# Altium footprint library KN2CLib.PcbLib: 142 footprints (part 1 of 9)
Each footprint in its own frame and in the unit in brackets; x right, y up, seen from the top. Pads: shape width x height; smd on the part's side, far side on the other; paste and mask are expansions set on the pad; w line width, h text height; cw(c..) or ccw(c..) is an arc to the next point about the centre after c.
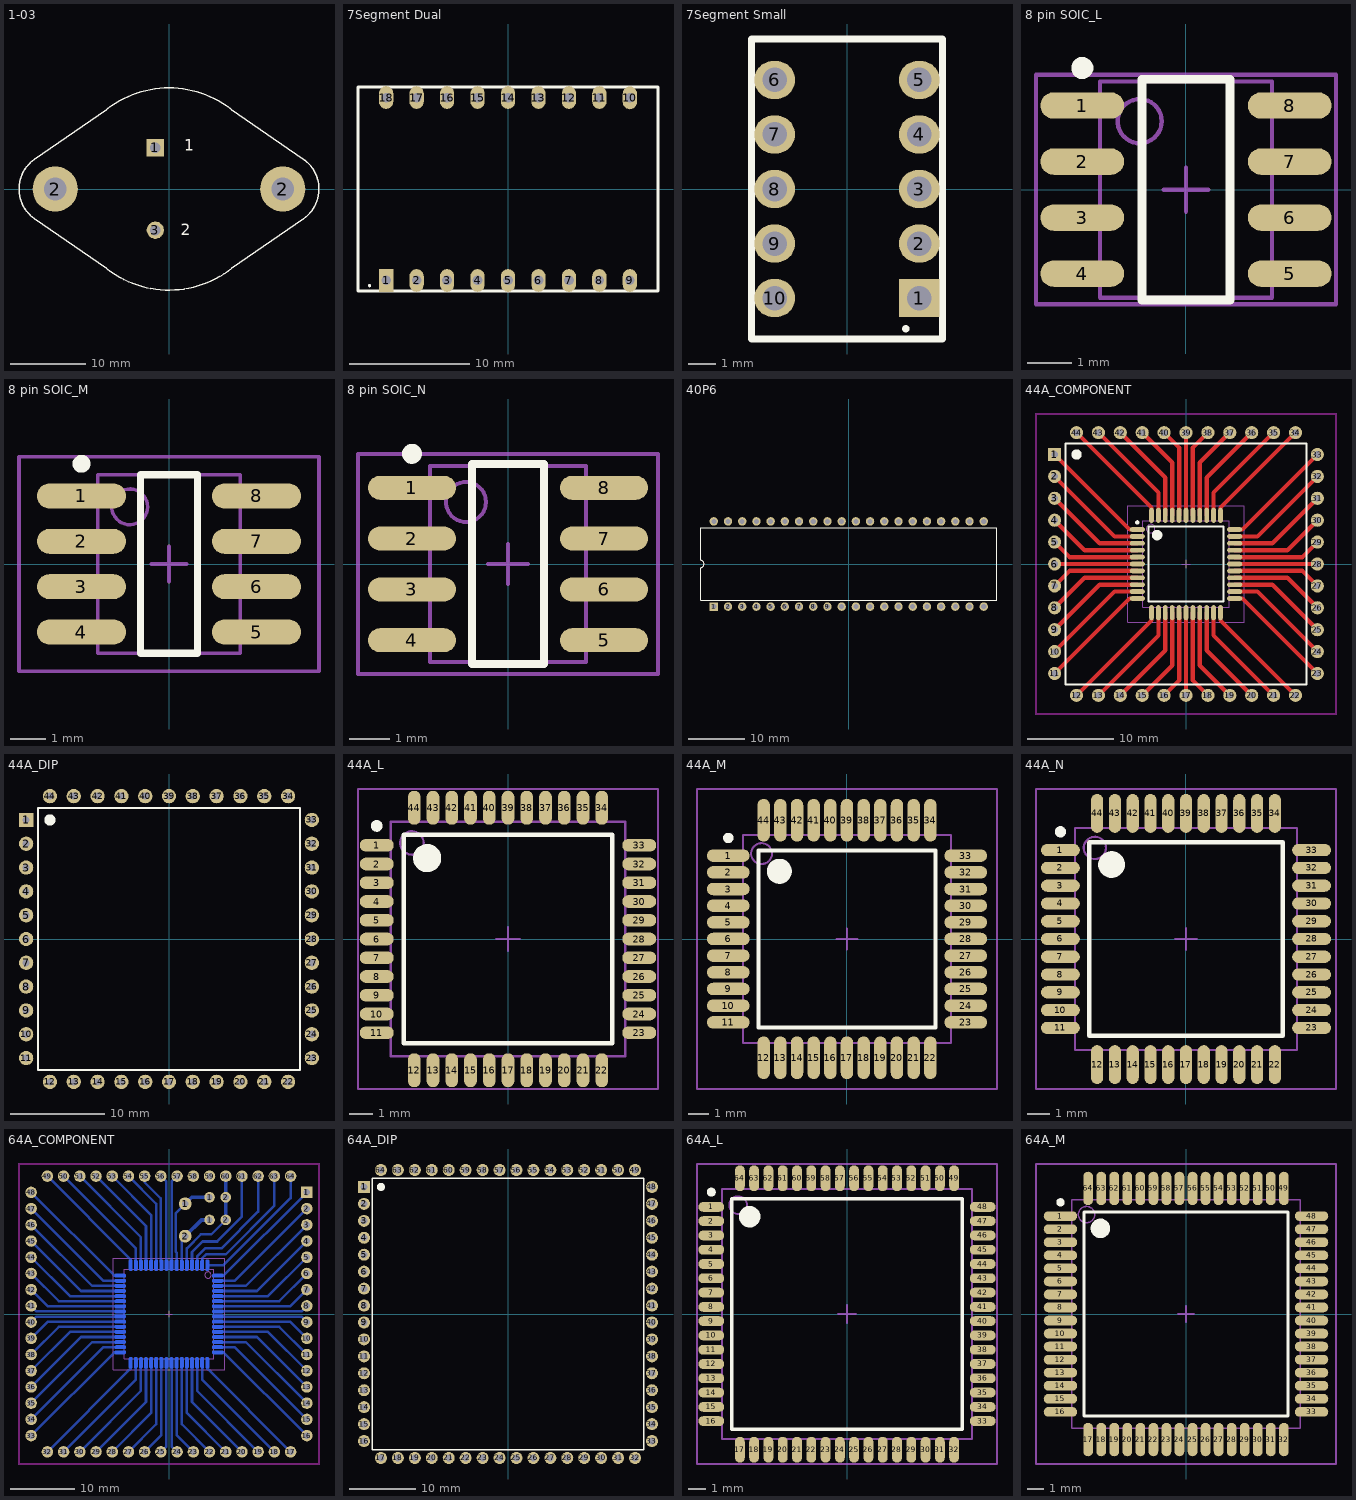
[diagram p0: the footprints below, top view; thin cyan lines are the x and y axes]

## 1-03 [mm] "Oval Flange Mount with (2) Offset Leads; Pin Spacing 10.92 mm; Lead Dia. 1.09 mm (max)"
height 11.43
pads (4):
  rect 2.3x2.3 hole 1.4: 1(-1.815,5.46)
  round 6 hole 3: 2(-15.075,0) 2(15.075,0)
  round 2.3 hole 1.4: 3(-1.815,-5.46)
Top Overlay:
  lines w0.2: -17.84,-3.93 -8.299,-10.521 ; -17.84,3.94 -8.299,10.521 ; -17.828,-3.932 cw(c-15.075,0) -17.828,3.932 ; -8.613,-10.265 ccw(c0,0) 8.298,-10.521 17.82,-3.94 ; -8.613,10.265 cw(c0,0) 8.613,10.265 ; 8.299,10.521 17.68,4.03 ; 17.689,4.026 cw(c15.075,0) 17.828,-3.932
  text "1" at 2.032,5.08 h1.5
  text "2" at 1.524,-6.096 h1.5
3D body: height 7.8, standoff 0, extent -19.875,-13.4 19.9,13.4

## 7Segment Dual [mm]
pads (18):
  rect 1.2x1.9 hole 0.8: 1(-10.16,-7.62)
  oval 1.2x1.9 hole 0.8: 2(-7.62,-7.62) 3(-5.08,-7.62) 4(-2.54,-7.62) 5(0,-7.62) 6(2.54,-7.62) 7(5.08,-7.62) 8(7.62,-7.62) 9(10.16,-7.62) 10(10.16,7.595) 11(7.62,7.62) 12(5.08,7.62) 13(2.54,7.62) 14(0,7.62) 15(-2.54,7.62) 16(-5.08,7.62) 17(-7.62,7.62) 18(-10.16,7.62)
Top Overlay:
  circle w0.254: c-11.541,-8.052 r0.009
  lines w0.254: -12.5,-8.5 -12.5,8.5 12.5,8.5 12.5,-8.5 -12.5,-8.5
3D body: height 4.8, standoff 0, extent -12.497,-8.509 12.497,8.484

## 7Segment Small [mm]
pads (10):
  rect 1.5x1.4 hole 0.9: 1(2.65,-4)
  oval 1.5x1.4 hole 0.9: 2(2.65,-2) 3(2.65,0) 4(2.65,2) 5(2.65,4) 6(-2.65,4) 7(-2.65,2) 8(-2.65,0) 9(-2.65,-2) 10(-2.65,-4)
Top Overlay:
  circle w0.254: c2.16,-5.123 r0.009
  lines w0.254: -3.5,-5.5 3.5,-5.5 3.5,5.5 -3.5,5.5 -3.5,-5.5
3D body: height 4.8, standoff 0, extent -3.537,-5.475 3.5,5.55

## 8 pin SOIC_L [mm] "8-Pin Small Outline Integrated Circuit 1.27 mm Pitch, IPC High Density"
height 1.91
pads (8):
  oval 1.9x0.6 smd: 1(-2.35,1.905) 2(-2.35,0.635) 3(-2.35,-0.635) 4(-2.35,-1.905) 5(2.35,-1.905) 6(2.35,-0.635) 7(2.35,0.635) 8(2.35,1.905)
Top Overlay:
  circle w0.25: c-2.35,2.755 r0.125
  lines w0.2: -1,-2.5 1,-2.5 1,2.5 -1,2.5 -1,-2.5
Mechanical 13:
  circle w0.1: c-1.05,1.55 r0.5
  lines w0.1: -1.95,-2.45 1.95,-2.45 1.95,2.45 -1.95,2.45 -1.95,-2.45
Mechanical 15:
  lines w0.1: -0.5,0 0.5,0 ; 0,-0.5 0,0.5 ; -3.4,-2.6 3.4,-2.6 3.4,2.6 -3.4,2.6 -3.4,-2.6
3D body: height 1.91, standoff 0, extent -1.95,-2.45 1.95,2.45

## 8 pin SOIC_M [mm] "8-Pin Small Outline Integrated Circuit 1.27 mm Pitch, IPC Low Density"
height 1.91
pads (8):
  oval 2.5x0.7 smd: 1(-2.45,1.905) 2(-2.45,0.635) 3(-2.45,-0.635) 4(-2.45,-1.905) 5(2.45,-1.905) 6(2.45,-0.635) 7(2.45,0.635) 8(2.45,1.905)
Top Overlay:
  circle w0.25: c-2.45,2.805 r0.125
  lines w0.2: -0.8,-2.5 -0.8,2.5 0.8,2.5 0.8,-2.5 -0.8,-2.5
Mechanical 13:
  circle w0.1: c-1.1,1.6 r0.5
  lines w0.1: -2,-2.5 -2,2.5 2,2.5 2,-2.5 -2,-2.5
Mechanical 15:
  lines w0.1: -0.5,0 0.5,0 ; 0,-0.5 0,0.5 ; -4.2,-3 -4.2,3 4.2,3 4.2,-3 -4.2,-3
3D body: height 1.91, standoff 0, extent -2,-2.5 2,2.5

## 8 pin SOIC_N [mm] "8-Pin Small Outline Integrated Circuit 1.27 mm Pitch, IPC Medium Density"
height 1.91
pads (8):
  oval 2.2x0.6 smd: 1(-2.4,1.905) 2(-2.4,0.635) 3(-2.4,-0.635) 4(-2.4,-1.905) 5(2.4,-1.905) 6(2.4,-0.635) 7(2.4,0.635) 8(2.4,1.905)
Top Overlay:
  circle w0.25: c-2.4,2.755 r0.125
  lines w0.2: -0.9,-2.5 -0.9,2.5 0.9,2.5 0.9,-2.5 -0.9,-2.5
Mechanical 13:
  circle w0.1: c-1.05,1.55 r0.5
  lines w0.1: -1.95,-2.45 -1.95,2.45 1.95,2.45 1.95,-2.45 -1.95,-2.45
Mechanical 15:
  lines w0.1: -0.5,0 0.5,0 ; 0,-0.5 0,0.5 ; -3.75,-2.75 -3.75,2.75 3.75,2.75 3.75,-2.75 -3.75,-2.75
3D body: height 1.91, standoff 0, extent -1.95,-2.45 1.95,2.45

## 40P6 [mm] "DIP; 40 Leads; Row Spacing 15.24 mm; Pitch 2.54 mm"
height 5.59
pads (40):
  rect 1.5x1.5 hole 0.9: 1(-24.13,-7.62)
  round 1.5 hole 0.9: 2(-21.59,-7.62) 3(-19.05,-7.62) 4(-16.51,-7.62) 5(-13.97,-7.62) 6(-11.43,-7.62) 7(-8.89,-7.62) 8(-6.35,-7.62) 9(-3.81,-7.62) 10(-1.27,-7.62) 11(1.27,-7.62) 12(3.81,-7.62) 13(6.35,-7.62) 14(8.89,-7.62) 15(11.43,-7.62) 16(13.97,-7.62) 17(16.51,-7.62) 18(19.05,-7.62) 19(21.59,-7.62) 20(24.13,-7.62) 21(24.13,7.62) 22(21.59,7.62) 23(19.05,7.62) 24(16.51,7.62) 25(13.97,7.62) 26(11.43,7.62) 27(8.89,7.62) 28(6.35,7.62) 29(3.81,7.62) 30(1.27,7.62) 31(-1.27,7.62) 32(-3.81,7.62) 33(-6.35,7.62) 34(-8.89,7.62) 35(-11.43,7.62) 36(-13.97,7.62) 37(-16.51,7.62) 38(-19.05,7.62) 39(-21.59,7.62) 40(-24.13,7.62)
Top Overlay:
  lines w0.2: -26.5,-6.45 26.5,-6.45 26.5,6.45 -26.5,6.45 -26.5,0.635 cw(c-26.5,0) -26.5,-0.635 -26.5,-6.45
3D body: height 7.6, standoff 0, extent -26.5,-6.475 26.5,6.45

## 44A_COMPONENT [mil]
pads (88):
  rect 60x60 hole 30: 1(-600,500)
  oval 68.9x21.65 smd: 1(-222.44,157.48) 2(-222.44,125.98) 3(-222.44,94.49) 4(-222.44,62.99) 5(-222.44,31.5) 6(-222.44,0) 7(-222.44,-31.5) 8(-222.44,-62.99) 9(-222.44,-94.49) 10(-222.44,-125.98) 11(-222.44,-157.48) 23(222.44,-157.48) 24(222.44,-125.98) 25(222.44,-94.49) 26(222.44,-62.99) 27(222.44,-31.5) 28(222.44,0) 29(222.44,31.5) 30(222.44,62.99) 31(222.44,94.49) 32(222.44,125.98) 33(222.44,157.48)
  round 60 hole 30: 2(-600,400) 3(-600,300) 4(-600,200) 5(-600,100) 6(-600,0) 7(-600,-100) 8(-600,-200) 9(-600,-300) 10(-600,-400) 11(-600,-500) 12(-500,-600) 13(-400,-600) 14(-300,-600) 15(-200,-600) 16(-100,-600) 17(0,-600) 18(100,-600) 19(200,-600) 20(300,-600) 21(400,-600) 22(500,-600) 23(600,-500) 24(600,-400) 25(600,-300) 26(600,-200) 27(600,-100) 28(600,0) 29(600,100) 30(600,200) 31(600,300) 32(600,400) 33(600,500) 34(500,600) 35(400,600) 36(300,600) 37(200,600) 38(100,600) 39(0,600) 40(-100,600) 41(-200,600) 42(-300,600) 43(-400,600) 44(-500,600)
  oval 21.65x68.9 smd: 12(-157.48,-222.44) 13(-125.98,-222.44) 14(-94.49,-222.44) 15(-62.99,-222.44) 16(-31.5,-222.44) 17(0,-222.44) 18(31.5,-222.44) 19(62.99,-222.44) 20(94.49,-222.44) 21(125.98,-222.44) 22(157.48,-222.44) 34(157.48,222.44) 35(125.98,222.44) 36(94.49,222.44) 37(62.99,222.44) 38(31.5,222.44) 39(0,222.44) 40(-31.5,222.44) 41(-62.99,222.44) 42(-94.49,222.44) 43(-125.98,222.44) 44(-157.48,222.44)
Top Layer:
  lines w19.68: -600,-500 -257.48,-157.48 -222.44,-157.48 ; -600,-400 -325.98,-125.98 -222.44,-125.98 ; -600,-300 -394.49,-94.49 -222.44,-94.49 ; -600,-200 -462.99,-62.99 -222.44,-62.99 ; -600,-100 -531.5,-31.5 -222.44,-31.5 ; -600,0 -222.44,0 ; -600,100 -531.5,31.5 -222.44,31.5 ; -600,200 -462.99,62.99 -222.44,62.99 ; -600,300 -394.49,94.49 -222.44,94.49 ; -600,400 -325.98,125.98 -222.44,125.98 ; -600,500 -257.48,157.48 -222.44,157.48 ; -500,-600 -157.48,-257.48 -157.48,-222.44 ; -500,600 -157.48,257.48 -157.48,222.44 ; -400,-600 -125.98,-325.98 -125.98,-222.44 ; -400,600 -125.98,325.98 -125.98,222.44 ; -300,-600 -94.49,-394.49 -94.49,-222.44 ; -300,600 -94.49,394.49 -94.49,222.44 ; -200,-600 -62.99,-462.99 -62.99,-222.44 ; -200,600 -62.99,462.99 -62.99,222.44 ; -100,-600 -31.5,-531.5 -31.5,-222.44 ; -100,600 -31.5,531.5 -31.5,222.44 ; 0,-600 0,-222.44 ; 0,222.44 0,600 ; 31.5,-222.44 31.5,-531.5 100,-600 ; 31.5,222.44 31.5,531.5 100,600 ; 62.99,-222.44 62.99,-462.99 200,-600 ; 62.99,222.44 62.99,462.99 200,600 ; 94.49,-222.44 94.49,-394.49 300,-600 ; 94.49,222.44 94.49,394.49 300,600 ; 125.98,-222.44 125.98,-325.98 400,-600 ; 125.98,222.44 125.98,325.98 400,600 ; 157.48,-222.44 157.48,-257.48 500,-600 ; 157.48,222.44 157.48,257.48 500,600 ; 222.44,-157.48 257.48,-157.48 600,-500 ; 222.44,-125.98 325.98,-125.98 600,-400 ; 222.44,-94.49 394.49,-94.49 600,-300 ; 222.44,-62.99 462.99,-62.99 600,-200 ; 222.44,-31.5 531.5,-31.5 600,-100 ; 222.44,0 600,0 ; 222.44,31.5 531.5,31.5 600,100 ; 222.44,62.99 462.99,62.99 600,200 ; 222.44,94.49 394.49,94.49 600,300 ; 222.44,125.98 325.98,125.98 600,400 ; 222.44,157.48 257.48,157.48 600,500
Top Overlay:
  circle w9.84: c-222.44,189.96 r4.92
  circle w23.62: c-131.89,131.89 r11.81
  circle w23.62: c-500,500 r11.81
  lines w7.87: -550,-550 550,-550 550,550 -550,550 -550,-550 ; -171.26,-171.26 -171.26,171.26 171.26,171.26 171.26,-171.26 -171.26,-171.26
Keep-Out Layer:
  lines w10: -685,-685 -685,685 685,685 685,-685 -685,-685
Mechanical 13:
  circle w3.94: c-161.42,161.42 r19.68
  lines w3.94: -196.85,-196.85 -196.85,196.85 196.85,196.85 196.85,-196.85 -196.85,-196.85
Mechanical 15:
  lines w3.94: -19.68,0 19.69,0 ; 0,-19.68 0,19.69 ; -265.75,-265.75 -265.75,265.75 265.75,265.75 265.75,-265.75 -265.75,-265.75
3D body: height 47.24, standoff 0, extent -196.85,-196.85 196.85,196.85

## 44A_DIP [mil]
pads (44):
  rect 60x60 hole 30: 1(-600,500)
  round 60 hole 30: 2(-600,400) 3(-600,300) 4(-600,200) 5(-600,100) 6(-600,0) 7(-600,-100) 8(-600,-200) 9(-600,-300) 10(-600,-400) 11(-600,-500) 12(-500,-600) 13(-400,-600) 14(-300,-600) 15(-200,-600) 16(-100,-600) 17(0,-600) 18(100,-600) 19(200,-600) 20(300,-600) 21(400,-600) 22(500,-600) 23(600,-500) 24(600,-400) 25(600,-300) 26(600,-200) 27(600,-100) 28(600,0) 29(600,100) 30(600,200) 31(600,300) 32(600,400) 33(600,500) 34(500,600) 35(400,600) 36(300,600) 37(200,600) 38(100,600) 39(0,600) 40(-100,600) 41(-200,600) 42(-300,600) 43(-400,600) 44(-500,600)
Top Overlay:
  circle w23.62: c-500,500 r11.81
  lines w7.87: -550,-550 550,-550 550,550 -550,550 -550,-550

## 44A_L [mm] "Thin QFP, 44-Leads, Body 10x10mm, Pitch 0.8mm, IPC High Density"
height 1.2
pads (44):
  oval 1.45x0.55 smd: 1(-5.6,4) 2(-5.6,3.2) 3(-5.6,2.4) 4(-5.6,1.6) 5(-5.6,0.8) 6(-5.6,0) 7(-5.6,-0.8) 8(-5.6,-1.6) 9(-5.6,-2.4) 10(-5.6,-3.2) 11(-5.6,-4) 23(5.6,-4) 24(5.6,-3.2) 25(5.6,-2.4) 26(5.6,-1.6) 27(5.6,-0.8) 28(5.6,0) 29(5.6,0.8) 30(5.6,1.6) 31(5.6,2.4) 32(5.6,3.2) 33(5.6,4)
  oval 0.55x1.45 smd: 12(-4,-5.6) 13(-3.2,-5.6) 14(-2.4,-5.6) 15(-1.6,-5.6) 16(-0.8,-5.6) 17(0,-5.6) 18(0.8,-5.6) 19(1.6,-5.6) 20(2.4,-5.6) 21(3.2,-5.6) 22(4,-5.6) 34(4,5.6) 35(3.2,5.6) 36(2.4,5.6) 37(1.6,5.6) 38(0.8,5.6) 39(0,5.6) 40(-0.8,5.6) 41(-1.6,5.6) 42(-2.4,5.6) 43(-3.2,5.6) 44(-4,5.6)
Top Overlay:
  circle w0.25: c-5.6,4.825 r0.125
  circle w0.6: c-3.45,3.45 r0.3
  lines w0.2: -4.45,-4.45 4.45,-4.45 4.45,4.45 -4.45,4.45 -4.45,-4.45
Mechanical 13:
  circle w0.1: c-4.1,4.1 r0.5
  lines w0.1: -5,-5 -5,5 5,5 5,-5 -5,-5
Mechanical 15:
  lines w0.1: -0.5,0 0.5,0 ; 0,-0.5 0,0.5 ; -6.4,-6.4 -6.4,6.4 6.4,6.4 6.4,-6.4 -6.4,-6.4
3D body: height 1.2, standoff 0, extent -5,-5 5,5

## 44A_M [mm] "44-Pin Thin Quad Flat Pack 0.8 mm Pitch, IPC Low Density"
height 1.2
pads (44):
  oval 2.05x0.6 smd: 1(-5.7,4) 2(-5.7,3.2) 3(-5.7,2.4) 4(-5.7,1.6) 5(-5.7,0.8) 6(-5.7,0) 7(-5.7,-0.8) 8(-5.7,-1.6) 9(-5.7,-2.4) 10(-5.7,-3.2) 11(-5.7,-4) 23(5.7,-4) 24(5.7,-3.2) 25(5.7,-2.4) 26(5.7,-1.6) 27(5.7,-0.8) 28(5.7,0) 29(5.7,0.8) 30(5.7,1.6) 31(5.7,2.4) 32(5.7,3.2) 33(5.7,4)
  oval 0.6x2.05 smd: 12(-4,-5.7) 13(-3.2,-5.7) 14(-2.4,-5.7) 15(-1.6,-5.7) 16(-0.8,-5.7) 17(0,-5.7) 18(0.8,-5.7) 19(1.6,-5.7) 20(2.4,-5.7) 21(3.2,-5.7) 22(4,-5.7) 34(4,5.7) 35(3.2,5.7) 36(2.4,5.7) 37(1.6,5.7) 38(0.8,5.7) 39(0,5.7) 40(-0.8,5.7) 41(-1.6,5.7) 42(-2.4,5.7) 43(-3.2,5.7) 44(-4,5.7)
Top Overlay:
  circle w0.6: c-3.25,3.25 r0.3
  circle w0.25: c-5.7,4.85 r0.125
  lines w0.2: -4.25,-4.25 4.25,-4.25 4.25,4.25 -4.25,4.25 -4.25,-4.25
Mechanical 13:
  circle w0.1: c-4.1,4.1 r0.5
  lines w0.1: -5,-5 5,-5 5,5 -5,5 -5,-5
Mechanical 15:
  lines w0.1: -0.5,0 0.5,0 ; 0,-0.5 0,0.5 ; -7.2,-7.2 7.2,-7.2 7.2,7.2 -7.2,7.2 -7.2,-7.2
3D body: height 1.2, standoff 0, extent -5,-5 5,5

## 44A_N [mm] "Thin QFP, 44-Leads, Body 10x10mm, Pitch 0.8mm, IPC Medium Density"
height 1.2
pads (44):
  oval 1.75x0.55 smd: 1(-5.65,4) 2(-5.65,3.2) 3(-5.65,2.4) 4(-5.65,1.6) 5(-5.65,0.8) 6(-5.65,0) 7(-5.65,-0.8) 8(-5.65,-1.6) 9(-5.65,-2.4) 10(-5.65,-3.2) 11(-5.65,-4) 23(5.65,-4) 24(5.65,-3.2) 25(5.65,-2.4) 26(5.65,-1.6) 27(5.65,-0.8) 28(5.65,0) 29(5.65,0.8) 30(5.65,1.6) 31(5.65,2.4) 32(5.65,3.2) 33(5.65,4)
  oval 0.55x1.75 smd: 12(-4,-5.65) 13(-3.2,-5.65) 14(-2.4,-5.65) 15(-1.6,-5.65) 16(-0.8,-5.65) 17(0,-5.65) 18(0.8,-5.65) 19(1.6,-5.65) 20(2.4,-5.65) 21(3.2,-5.65) 22(4,-5.65) 34(4,5.65) 35(3.2,5.65) 36(2.4,5.65) 37(1.6,5.65) 38(0.8,5.65) 39(0,5.65) 40(-0.8,5.65) 41(-1.6,5.65) 42(-2.4,5.65) 43(-3.2,5.65) 44(-4,5.65)
Top Overlay:
  circle w0.25: c-5.65,4.825 r0.125
  circle w0.6: c-3.35,3.35 r0.3
  lines w0.2: -4.35,-4.35 -4.35,4.35 4.35,4.35 4.35,-4.35 -4.35,-4.35
Mechanical 13:
  circle w0.1: c-4.1,4.1 r0.5
  lines w0.1: -5,-5 -5,5 5,5 5,-5 -5,-5
Mechanical 15:
  lines w0.1: -0.5,0 0.5,0 ; 0,-0.5 0,0.5 ; -6.75,-6.75 -6.75,6.75 6.75,6.75 6.75,-6.75 -6.75,-6.75
3D body: height 1.2, standoff 0, extent -5,-5 5,5

## 64A_COMPONENT [mm]
pads (134):
  round 2 hole 1: 1(2.54,17.272) 2(2.54,12.192)
  round 1.65 hole 1: 1(6.35,14.732) 1(6.35,18.288) 2(8.89,14.732) 2(8.89,18.288)
  oval 1.75x0.55 smd far side: 1(7.65,6) 2(7.65,5.2) 3(7.65,4.4) 4(7.65,3.6) 5(7.65,2.8) 6(7.65,2) 7(7.65,1.2) 8(7.65,0.4) 9(7.65,-0.4) 10(7.65,-1.2) 11(7.65,-2) 12(7.65,-2.8) 13(7.65,-3.6) 14(7.65,-4.4) 15(7.65,-5.2) 16(7.65,-6) 33(-7.65,-6) 34(-7.65,-5.2) 35(-7.65,-4.4) 36(-7.65,-3.6) 37(-7.65,-2.8) 38(-7.65,-2) 39(-7.65,-1.2) 40(-7.65,-0.4) 41(-7.65,0.4) 42(-7.65,1.2) 43(-7.65,2) 44(-7.65,2.8) 45(-7.65,3.6) 46(-7.65,4.4) 47(-7.65,5.2) 48(-7.65,6)
  rect 1.8x1.8 hole 1: 1(21.59,19.05)
  round 1.8 hole 1: 2(21.59,16.51) 3(21.59,13.97) 4(21.59,11.43) 5(21.59,8.89) 6(21.59,6.35) 7(21.59,3.81) 8(21.59,1.27) 9(21.59,-1.27) 10(21.59,-3.81) 11(21.59,-6.35) 12(21.59,-8.89) 13(21.59,-11.43) 14(21.59,-13.97) 15(21.59,-16.51) 16(21.59,-19.05) 17(19.05,-21.59) 18(16.51,-21.59) 19(13.97,-21.59) 20(11.43,-21.59) 21(8.89,-21.59) 22(6.35,-21.59) 23(3.81,-21.59) 24(1.27,-21.59) 25(-1.27,-21.59) 26(-3.81,-21.59) 27(-6.35,-21.59) 28(-8.89,-21.59) 29(-11.43,-21.59) 30(-13.97,-21.59) 31(-16.51,-21.59) 32(-19.05,-21.59) 33(-21.59,-19.05) 34(-21.59,-16.51) 35(-21.59,-13.97) 36(-21.59,-11.43) 37(-21.59,-8.89) 38(-21.59,-6.35) 39(-21.59,-3.81) 40(-21.59,-1.27) 41(-21.59,1.27) 42(-21.59,3.81) 43(-21.59,6.35) 44(-21.59,8.89) 45(-21.59,11.43) 46(-21.59,13.97) 47(-21.59,16.51) 48(-21.59,19.05) 49(-19.05,21.59) 50(-16.51,21.59) 51(-13.97,21.59) 52(-11.43,21.59) 53(-8.89,21.59) 54(-6.35,21.59) 55(-3.81,21.59) 56(-1.27,21.59) 57(1.27,21.59) 58(3.81,21.59) 59(6.35,21.59) 60(8.89,21.59) 61(11.43,21.59) 62(13.97,21.59) 63(16.51,21.59) 64(19.05,21.59)
  oval 0.55x1.75 smd far side: 17(6,-7.65) 18(5.2,-7.65) 19(4.4,-7.65) 20(3.6,-7.65) 21(2.8,-7.65) 22(2,-7.65) 23(1.2,-7.65) 24(0.4,-7.65) 25(-0.4,-7.65) 26(-1.2,-7.65) 27(-2,-7.65) 28(-2.8,-7.65) 29(-3.6,-7.65) 30(-4.4,-7.65) 31(-5.2,-7.65) 32(-6,-7.65) 49(-6,7.65) 50(-5.2,7.65) 51(-4.4,7.65) 52(-3.6,7.65) 53(-2.8,7.65) 54(-2,7.65) 55(-1.2,7.65) 56(-0.4,7.65) 57(0.4,7.65) 58(1.2,7.65) 59(2,7.65) 60(2.8,7.65) 61(3.6,7.65) 62(4.4,7.65) 63(5.2,7.65) 64(6,7.65)
Bottom Layer:
  lines w0.4: -21.59,-19.05 -8.54,-6 -7.65,-6 ; -21.59,-16.51 -10.28,-5.2 -7.65,-5.2 ; -21.59,-13.97 -12.02,-4.4 -7.65,-4.4 ; -21.59,-11.43 -13.76,-3.6 -7.65,-3.6 ; -21.59,-8.89 -15.5,-2.8 -7.65,-2.8 ; -21.59,-6.35 -17.24,-2 -7.65,-2 ; -21.59,-3.81 -18.98,-1.2 -7.65,-1.2 ; -21.59,-1.27 -20.72,-0.4 -7.65,-0.4 ; -21.59,1.27 -20.72,0.4 -7.65,0.4 ; -21.59,3.81 -18.98,1.2 -7.65,1.2 ; -21.59,6.35 -17.24,2 -7.65,2 ; -21.59,8.89 -15.5,2.8 -7.65,2.8 ; -21.59,11.43 -13.76,3.6 -7.65,3.6 ; -21.59,13.97 -12.02,4.4 -7.65,4.4 ; -21.59,16.51 -10.28,5.2 -7.65,5.2 ; -21.59,19.05 -8.54,6 -7.65,6 ; -19.05,-21.59 -6,-8.54 -6,-7.65 ; -19.05,21.59 -6,8.54 -6,7.65 ; -16.51,-21.59 -5.2,-10.28 -5.2,-7.65 ; -16.51,21.59 -5.2,10.28 -5.2,7.65 ; -13.97,-21.59 -4.4,-12.02 -4.4,-7.65 ; -13.97,21.59 -4.4,12.02 -4.4,7.65 ; -11.43,-21.59 -3.6,-13.76 -3.6,-7.65 ; -11.43,21.59 -3.6,13.76 -3.6,7.65 ; -8.89,-21.59 -2.8,-15.5 -2.8,-7.65 ; -8.89,21.59 -2.8,15.5 -2.8,7.65 ; -6.35,-21.59 -2,-17.24 -2,-7.65 ; -6.35,21.59 -2,17.24 -2,7.65 ; -3.81,-21.59 -1.2,-18.98 -1.2,-7.65 ; -3.81,21.59 -3.81,20.634 -1.29,18.114 -1.29,8.504 -1.2,7.65 ; -1.27,-21.59 -0.4,-20.72 -0.4,-7.65 ; -1.27,21.59 -0.4,20.72 -0.4,7.65 ; 0.4,-7.65 0.4,-20.72 1.27,-21.59 ; 0.4,7.65 0.4,20.72 1.27,21.59 ; 1.2,-7.65 1.2,-18.98 3.81,-21.59 ; 1.2,7.65 1.2,9.62 1.067,9.754 1.067,15.799 2.54,17.272 ; 2,-7.65 2,-17.24 6.35,-21.59 ; 2,7.65 2,11.652 2.54,12.192 ; 2.8,-7.65 2.8,-15.5 8.89,-21.59 ; 2.8,7.65 2.8,10.293 4.998,12.491 6.649,12.491 8.89,14.732 ; 3.6,-7.65 3.6,-13.76 11.43,-21.59 ; 3.6,7.65 3.6,9.696 5.258,11.354 7.544,11.354 11.43,15.24 11.43,21.59 ; 4.4,-7.65 4.4,-12.02 13.97,-21.59 ; 4.4,7.65 4.4,9.023 5.703,10.326 8.267,10.326 13.97,16.029 13.97,21.59 ; 5.2,-7.65 5.2,-10.28 16.51,-21.59 ; 5.2,7.65 5.2,8.731 5.817,9.347 8.889,9.347 16.51,16.969 16.51,21.59 ; 6,-7.65 6,-8.54 19.05,-21.59 ; 6,7.65 8.534,7.65 19.05,18.166 19.05,21.59 ; 7.65,-6 8.54,-6 21.59,-19.05 ; 7.65,-5.2 10.28,-5.2 21.59,-16.51 ; 7.65,-4.4 12.02,-4.4 21.59,-13.97 ; 7.65,-3.6 13.76,-3.6 21.59,-11.43 ; 7.65,-2.8 15.5,-2.8 21.59,-8.89 ; 7.65,-2 17.24,-2 21.59,-6.35 ; 7.65,-1.2 18.98,-1.2 21.59,-3.81 ; 7.65,-0.4 20.72,-0.4 21.59,-1.27 ; 7.65,0.4 20.72,0.4 21.59,1.27 ; 7.65,1.2 18.98,1.2 21.59,3.81 ; 7.65,2 17.24,2 21.59,6.35 ; 7.65,2.8 15.5,2.8 21.59,8.89 ; 7.65,3.6 13.76,3.6 21.59,11.43 ; 7.65,4.4 12.02,4.4 21.59,13.97 ; 7.65,5.2 10.28,5.2 21.59,16.51 ; 7.65,6 8.54,6 21.59,19.05
  lines w0.6: 2.54,12.192 5.08,14.732 6.35,14.732 ; 2.54,17.272 3.556,18.288 6.35,18.288 ; 8.89,14.732 8.89,18.288 8.89,21.59
  text "AVR XMEGA" at -9.982,8.915 h1.5
  text "KN2C" at -14.275,-15.316 h1.5
  text "Designed By:" at -8.941,-9.322 h0.8
  text "1" at 22.606,20.853 h1
  text "17" at 21.742,-23.012 h1
  text "33" at -23.114,-21.641 h1
  text "49" at -21.869,23.038 h1
  text "64" at 20.345,22.962 h1
Bottom Overlay:
  circle w0.6: c5.35,5.35 r0.3
  circle w0.25: c7.65,6.825 r0.125
  circle w0.6: c19.05,19.05 r0.3
  lines w0.2: -20.32,-20.32 -20.32,20.32 20.32,20.32 20.32,-20.32 -20.32,-20.32 ; -6.35,-6.35 6.35,-6.35 6.35,6.35 -6.35,6.35 -6.35,-6.35 ; 5.07,13.132 10.17,13.132 10.17,16.332 5.07,16.332 5.07,13.132 ; 5.07,16.688 10.17,16.688 10.17,19.888 5.07,19.888 5.07,16.688
  lines w0.305: 1.016,9.652 4.064,9.652 4.064,19.812 1.016,19.812 1.016,9.652
Keep-Out Layer:
  lines w0.254: -23.495,-23.495 23.495,-23.495 23.495,23.495 -23.495,23.495 -23.495,-23.495
Mechanical 13:
  circle w0.1: c6.1,6.1 r0.5
  lines w0.1: -7,-7 7,-7 7,7 -7,7 -7,-7
Mechanical 15:
  lines w0.1: -0.5,0 0.5,0 ; 0,-0.5 0,0.5 ; -8.75,-8.75 8.75,-8.75 8.75,8.75 -8.75,8.75 -8.75,-8.75
3D body: height 1.2, standoff 0, extent -7,-7 7,7

## 64A_DIP [mm] "DIP, 64-Leads, Body 14x14mm,"
pads (64):
  rect 1.8x1.8 hole 1: 1(-21.59,19.05)
  round 1.8 hole 1: 2(-21.59,16.51) 3(-21.59,13.97) 4(-21.59,11.43) 5(-21.59,8.89) 6(-21.59,6.35) 7(-21.59,3.81) 8(-21.59,1.27) 9(-21.59,-1.27) 10(-21.59,-3.81) 11(-21.59,-6.35) 12(-21.59,-8.89) 13(-21.59,-11.43) 14(-21.59,-13.97) 15(-21.59,-16.51) 16(-21.59,-19.05) 17(-19.05,-21.59) 18(-16.51,-21.59) 19(-13.97,-21.59) 20(-11.43,-21.59) 21(-8.89,-21.59) 22(-6.35,-21.59) 23(-3.81,-21.59) 24(-1.27,-21.59) 25(1.27,-21.59) 26(3.81,-21.59) 27(6.35,-21.59) 28(8.89,-21.59) 29(11.43,-21.59) 30(13.97,-21.59) 31(16.51,-21.59) 32(19.05,-21.59) 33(21.59,-19.05) 34(21.59,-16.51) 35(21.59,-13.97) 36(21.59,-11.43) 37(21.59,-8.89) 38(21.59,-6.35) 39(21.59,-3.81) 40(21.59,-1.27) 41(21.59,1.27) 42(21.59,3.81) 43(21.59,6.35) 44(21.59,8.89) 45(21.59,11.43) 46(21.59,13.97) 47(21.59,16.51) 48(21.59,19.05) 49(19.05,21.59) 50(16.51,21.59) 51(13.97,21.59) 52(11.43,21.59) 53(8.89,21.59) 54(6.35,21.59) 55(3.81,21.59) 56(1.27,21.59) 57(-1.27,21.59) 58(-3.81,21.59) 59(-6.35,21.59) 60(-8.89,21.59) 61(-11.43,21.59) 62(-13.97,21.59) 63(-16.51,21.59) 64(-19.05,21.59)
Top Overlay:
  circle w0.6: c-19.05,19.05 r0.3
  lines w0.2: -20.32,-20.32 20.32,-20.32 20.32,20.32 -20.32,20.32 -20.32,-20.32

## 64A_L [mm] "Thin QFP, 64-Leads, Body 14x14mm, Pitch 0.8mm, IPC High Density"
height 1.2
pads (64):
  oval 1.45x0.55 smd: 1(-7.6,6) 2(-7.6,5.2) 3(-7.6,4.4) 4(-7.6,3.6) 5(-7.6,2.8) 6(-7.6,2) 7(-7.6,1.2) 8(-7.6,0.4) 9(-7.6,-0.4) 10(-7.6,-1.2) 11(-7.6,-2) 12(-7.6,-2.8) 13(-7.6,-3.6) 14(-7.6,-4.4) 15(-7.6,-5.2) 16(-7.6,-6) 33(7.6,-6) 34(7.6,-5.2) 35(7.6,-4.4) 36(7.6,-3.6) 37(7.6,-2.8) 38(7.6,-2) 39(7.6,-1.2) 40(7.6,-0.4) 41(7.6,0.4) 42(7.6,1.2) 43(7.6,2) 44(7.6,2.8) 45(7.6,3.6) 46(7.6,4.4) 47(7.6,5.2) 48(7.6,6)
  oval 0.55x1.45 smd: 17(-6,-7.6) 18(-5.2,-7.6) 19(-4.4,-7.6) 20(-3.6,-7.6) 21(-2.8,-7.6) 22(-2,-7.6) 23(-1.2,-7.6) 24(-0.4,-7.6) 25(0.4,-7.6) 26(1.2,-7.6) 27(2,-7.6) 28(2.8,-7.6) 29(3.6,-7.6) 30(4.4,-7.6) 31(5.2,-7.6) 32(6,-7.6) 49(6,7.6) 50(5.2,7.6) 51(4.4,7.6) 52(3.6,7.6) 53(2.8,7.6) 54(2,7.6) 55(1.2,7.6) 56(0.4,7.6) 57(-0.4,7.6) 58(-1.2,7.6) 59(-2,7.6) 60(-2.8,7.6) 61(-3.6,7.6) 62(-4.4,7.6) 63(-5.2,7.6) 64(-6,7.6)
Top Overlay:
  circle w0.6: c-5.45,5.45 r0.3
  circle w0.25: c-7.6,6.825 r0.125
  lines w0.2: -6.45,-6.45 6.45,-6.45 6.45,6.45 -6.45,6.45 -6.45,-6.45
Mechanical 13:
  circle w0.1: c-6.1,6.1 r0.5
  lines w0.1: -7,-7 7,-7 7,7 -7,7 -7,-7
Mechanical 15:
  lines w0.1: -0.5,0 0.5,0 ; 0,-0.5 0,0.5 ; -8.4,-8.4 8.4,-8.4 8.4,8.4 -8.4,8.4 -8.4,-8.4
3D body: height 1.2, standoff 0, extent -7,-7 7,7

## 64A_M [mm] "Thin QFP, 64-Leads, Body 14x14mm, Pitch 0.8mm, IPC Low Density"
height 1.2
pads (64):
  oval 2.05x0.6 smd: 1(-7.7,6) 2(-7.7,5.2) 3(-7.7,4.4) 4(-7.7,3.6) 5(-7.7,2.8) 6(-7.7,2) 7(-7.7,1.2) 8(-7.7,0.4) 9(-7.7,-0.4) 10(-7.7,-1.2) 11(-7.7,-2) 12(-7.7,-2.8) 13(-7.7,-3.6) 14(-7.7,-4.4) 15(-7.7,-5.2) 16(-7.7,-6) 33(7.7,-6) 34(7.7,-5.2) 35(7.7,-4.4) 36(7.7,-3.6) 37(7.7,-2.8) 38(7.7,-2) 39(7.7,-1.2) 40(7.7,-0.4) 41(7.7,0.4) 42(7.7,1.2) 43(7.7,2) 44(7.7,2.8) 45(7.7,3.6) 46(7.7,4.4) 47(7.7,5.2) 48(7.7,6)
  oval 0.6x2.05 smd: 17(-6,-7.7) 18(-5.2,-7.7) 19(-4.4,-7.7) 20(-3.6,-7.7) 21(-2.8,-7.7) 22(-2,-7.7) 23(-1.2,-7.7) 24(-0.4,-7.7) 25(0.4,-7.7) 26(1.2,-7.7) 27(2,-7.7) 28(2.8,-7.7) 29(3.6,-7.7) 30(4.4,-7.7) 31(5.2,-7.7) 32(6,-7.7) 49(6,7.7) 50(5.2,7.7) 51(4.4,7.7) 52(3.6,7.7) 53(2.8,7.7) 54(2,7.7) 55(1.2,7.7) 56(0.4,7.7) 57(-0.4,7.7) 58(-1.2,7.7) 59(-2,7.7) 60(-2.8,7.7) 61(-3.6,7.7) 62(-4.4,7.7) 63(-5.2,7.7) 64(-6,7.7)
Top Overlay:
  circle w0.6: c-5.25,5.25 r0.3
  circle w0.25: c-7.7,6.85 r0.125
  lines w0.2: -6.25,-6.25 6.25,-6.25 6.25,6.25 -6.25,6.25 -6.25,-6.25
Mechanical 13:
  circle w0.1: c-6.1,6.1 r0.5
  lines w0.1: -7,-7 7,-7 7,7 -7,7 -7,-7
Mechanical 15:
  lines w0.1: -0.5,0 0.5,0 ; 0,-0.5 0,0.5 ; -9.2,-9.2 9.2,-9.2 9.2,9.2 -9.2,9.2 -9.2,-9.2
3D body: height 1.2, standoff 0, extent -7,-7 7,7